# Altium footprint library 5020.PcbLib: 1 footprints
Each footprint in its own frame and in the unit in brackets; x right, y up, seen from the top. Pads: shape width x height; smd on the part's side, far side on the other; paste and mask are expansions set on the pad; w line width, h text height; cw(c..) or ccw(c..) is an arc to the next point about the centre after c.
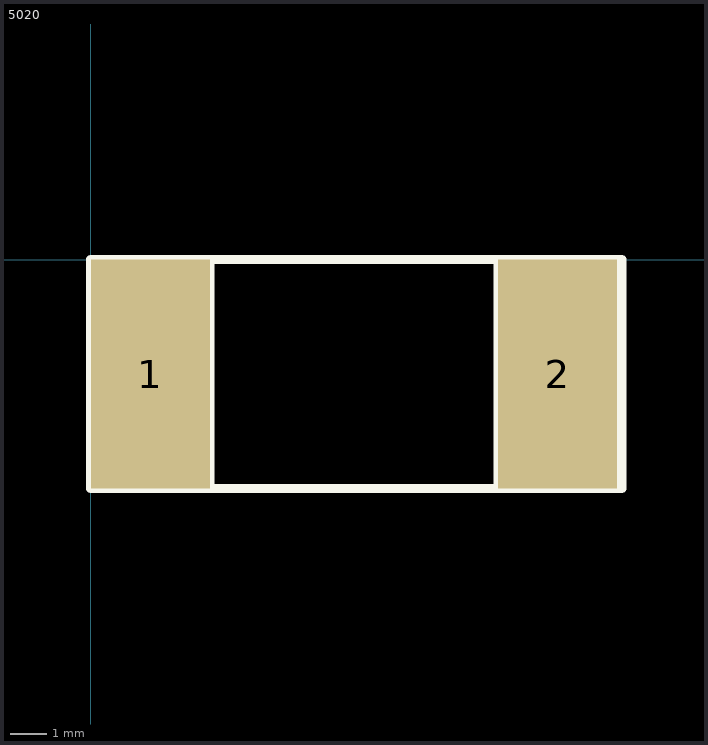
[diagram p0: the footprint, top view; thin cyan lines are the x and y axes]

## 5020 [mil]
pads (2):
  rect 130x250 smd: 1(65,-125) 2(510,-125)
Top Overlay:
  lines w10: 130,-250 130,0 ; 445,-250 445,0 ; 0,-250 580,-250 580,0 0,0 0,-200 0,-225 0,-250
3D body: height 32, standoff 0, extent 40,-225 540,-25